# Altium footprint library Header-2mm-2X24-M-V.PcbLib: 1 footprints
Each footprint in its own frame and in the unit in brackets; x right, y up, seen from the top. Pads: shape width x height; smd on the part's side, far side on the other; paste and mask are expansions set on the pad; w line width, h text height; cw(c..) or ccw(c..) is an arc to the next point about the centre after c.
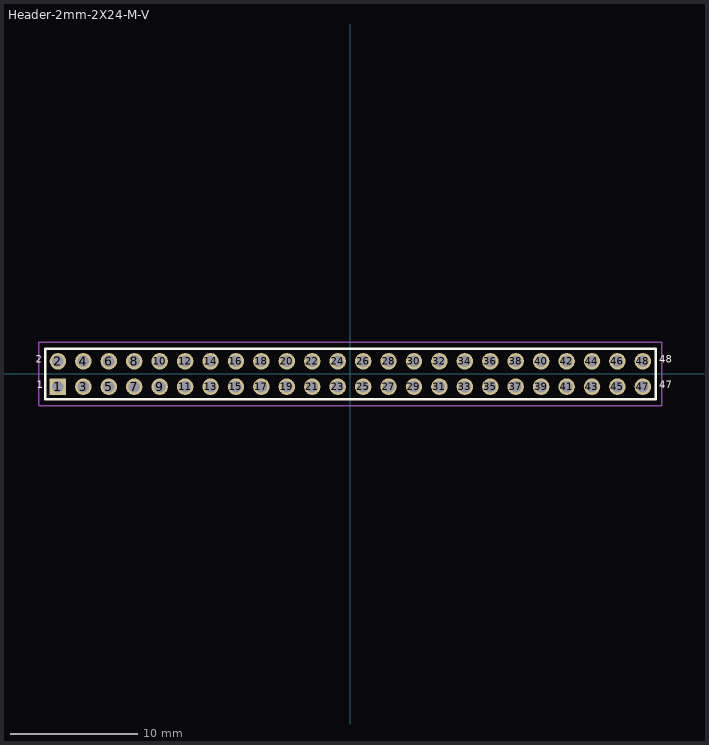
[diagram p0: the footprint, top view; thin cyan lines are the x and y axes]

## Header-2mm-2X24-M-V [mm]
pads (48):
  rect 1.3x1.3 hole 0.9: 1(-23,-1)
  round 1.3 hole 0.9: 2(-23,1) 3(-21,-1) 4(-21,1) 5(-19,-1) 6(-19,1) 7(-17,-1) 8(-17,1) 9(-15,-1) 10(-15,1) 11(-13,-1) 12(-13,1) 13(-11,-1) 14(-11,1) 15(-9,-1) 16(-9,1) 17(-7,-1) 18(-7,1) 19(-5,-1) 20(-5,1) 21(-3,-1) 22(-3,1) 23(-1,-1) 24(-1,1) 25(1,-1) 26(1,1) 27(3,-1) 28(3,1) 29(5,-1) 30(5,1) 31(7,-1) 32(7,1) 33(9,-1) 34(9,1) 35(11,-1) 36(11,1) 37(13,-1) 38(13,1) 39(15,-1) 40(15,1) 41(17,-1) 42(17,1) 43(19,-1) 44(19,1) 45(21,-1) 46(21,1) 47(23,-1) 48(23,1)
Top Overlay:
  lines w0.2: -24,-2 -24,2 24,2 24,-2 -24,-2
  text "48" at 24.306,0.684 h1
  text "47" at 24.306,-1.321 h1
  text "2" at -24.74,0.678 h1
  text "1" at -24.666,-1.322 h1
Top Courtyard:
  lines w0.1: -24.5,-2.5 -24.5,2.5 24.5,2.5 24.5,-2.5 -24,-2.5 -24.5,-2.5
3D body "MTMM-101-03-F-S-150.stp": height 5.31, standoff -2.36, extent 22,0.001 24,2
3D body "MTMM-101-03-F-S-150.stp": height 5.31, standoff -2.36, extent 22,-1.999 24,0
3D body "MTMM-101-03-F-S-150.stp": height 5.31, standoff -2.36, extent 20,0.001 22,2
3D body "MTMM-101-03-F-S-150.stp": height 5.31, standoff -2.36, extent 20,-1.999 22,0
3D body "MTMM-101-03-F-S-150.stp": height 5.31, standoff -2.36, extent 18,0.001 20,2
3D body "MTMM-101-03-F-S-150.stp": height 5.31, standoff -2.36, extent 18,-1.999 20,0
3D body "MTMM-101-03-F-S-150.stp": height 5.31, standoff -2.36, extent 16,0.001 18,2
3D body "MTMM-101-03-F-S-150.stp": height 5.31, standoff -2.36, extent 16,-1.999 18,0
3D body "MTMM-101-03-F-S-150.stp": height 5.31, standoff -2.36, extent 14,0.001 16,2
3D body "MTMM-101-03-F-S-150.stp": height 5.31, standoff -2.36, extent 14,-1.999 16,0
3D body "MTMM-101-03-F-S-150.stp": height 5.31, standoff -2.36, extent 12,0.001 14,2
3D body "MTMM-101-03-F-S-150.stp": height 5.31, standoff -2.36, extent 12,-1.999 14,0
3D body "MTMM-101-03-F-S-150.stp": height 5.31, standoff -2.36, extent 10,0.001 12,2
3D body "MTMM-101-03-F-S-150.stp": height 5.31, standoff -2.36, extent 10,-1.999 12,0
3D body "MTMM-101-03-F-S-150.stp": height 5.31, standoff -2.36, extent 8,0.001 10,2
3D body "MTMM-101-03-F-S-150.stp": height 5.31, standoff -2.36, extent 8,-1.999 10,0
3D body "MTMM-101-03-F-S-150.stp": height 5.31, standoff -2.36, extent 6,0.001 8,2
3D body "MTMM-101-03-F-S-150.stp": height 5.31, standoff -2.36, extent 6,-1.999 8,0
3D body "MTMM-101-03-F-S-150.stp": height 5.31, standoff -2.36, extent 4,0.001 6,2
3D body "MTMM-101-03-F-S-150.stp": height 5.31, standoff -2.36, extent 4,-1.999 6,0
3D body "MTMM-101-03-F-S-150.stp": height 5.31, standoff -2.36, extent 2,0.001 4,2
3D body "MTMM-101-03-F-S-150.stp": height 5.31, standoff -2.36, extent 2,-1.999 4,0
3D body "MTMM-101-03-F-S-150.stp": height 5.31, standoff -2.36, extent 0,0.001 2,2
3D body "MTMM-101-03-F-S-150.stp": height 5.31, standoff -2.36, extent 0,-1.999 2,0
3D body "MTMM-101-03-F-S-150.stp": height 5.31, standoff -2.36, extent -2,0.001 0,2
3D body "MTMM-101-03-F-S-150.stp": height 5.31, standoff -2.36, extent -2,-1.999 0,0
3D body "MTMM-101-03-F-S-150.stp": height 5.31, standoff -2.36, extent -4,0.001 -2,2
3D body "MTMM-101-03-F-S-150.stp": height 5.31, standoff -2.36, extent -4,-1.999 -2,0
3D body "MTMM-101-03-F-S-150.stp": height 5.31, standoff -2.36, extent -6,0.001 -4,2
3D body "MTMM-101-03-F-S-150.stp": height 5.31, standoff -2.36, extent -6,-1.999 -4,0
3D body "MTMM-101-03-F-S-150.stp": height 5.31, standoff -2.36, extent -8,0.001 -6,2
3D body "MTMM-101-03-F-S-150.stp": height 5.31, standoff -2.36, extent -8,-1.999 -6,0
3D body "MTMM-101-03-F-S-150.stp": height 5.31, standoff -2.36, extent -10,0.001 -8,2
3D body "MTMM-101-03-F-S-150.stp": height 5.31, standoff -2.36, extent -10,-1.999 -8,0
3D body "MTMM-101-03-F-S-150.stp": height 5.31, standoff -2.36, extent -12,0.001 -10,2
3D body "MTMM-101-03-F-S-150.stp": height 5.31, standoff -2.36, extent -12,-1.999 -10,0
3D body "MTMM-101-03-F-S-150.stp": height 5.31, standoff -2.36, extent -14,0.001 -12,2
3D body "MTMM-101-03-F-S-150.stp": height 5.31, standoff -2.36, extent -14,-1.999 -12,0
3D body "MTMM-101-03-F-S-150.stp": height 5.31, standoff -2.36, extent -16,0.001 -14,2
3D body "MTMM-101-03-F-S-150.stp": height 5.31, standoff -2.36, extent -16,-1.999 -14,0
3D body "MTMM-101-03-F-S-150.stp": height 5.31, standoff -2.36, extent -18,0.001 -16,2
3D body "MTMM-101-03-F-S-150.stp": height 5.31, standoff -2.36, extent -18,-1.999 -16,0
3D body "MTMM-101-03-F-S-150.stp": height 5.31, standoff -2.36, extent -20,0.001 -18,2
3D body "MTMM-101-03-F-S-150.stp": height 5.31, standoff -2.36, extent -20,-1.999 -18,0
3D body "MTMM-101-03-F-S-150.stp": height 5.31, standoff -2.36, extent -22,0.001 -20,2
3D body "MTMM-101-03-F-S-150.stp": height 5.31, standoff -2.36, extent -24,0.001 -22,2
3D body "MTMM-101-03-F-S-150.stp": height 5.31, standoff -2.36, extent -22,-1.999 -20,0
3D body "MTMM-101-03-F-S-150.stp": height 5.31, standoff -2.36, extent -24,-1.999 -22,0